# Altium schematic symbol library IC-Interface.SchLib: 6 symbols
Pins are listed as number, name and electrical type; pins without a type are passive.

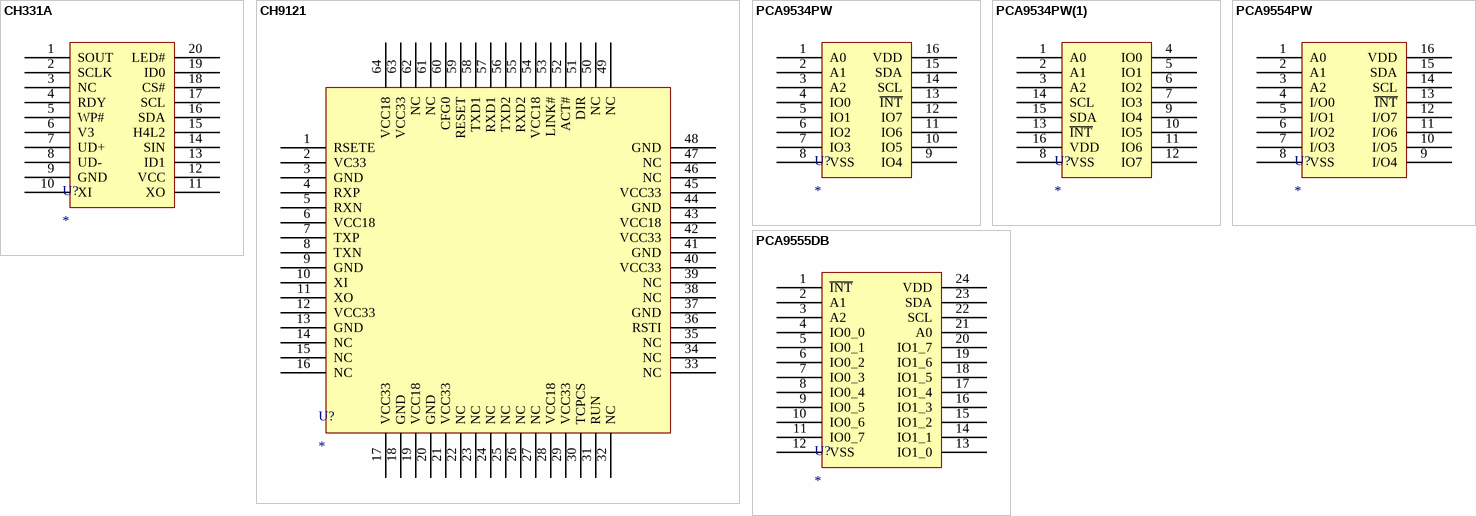
[diagram p0: symbols CH331A to PCA9555DB]

## CH331A
designator U?
footprint SSOP-20 (SSOP, Plastic; 20 Leads; Body Width 5.3 mm; Pitch 0.65 mm)
pins: 1 SOUT, 2 SCLK, 3 NC, 4 RDY, 5 WP#, 6 V3, 7 UD+, 8 UD-, 9 GND, 10 XI, 11 XO, 12 VCC, 13 ID1, 14 SIN, 15 H4L2, 16 SDA, 17 SCL, 18 CS#, 19 ID0, 20 LED#

## CH9121
designator U?
footprint LQFP-64 (Thin QFP, 64-Leads, Body 10x10mm, Pitch 0.5mm, IPC Medium Density)
pins: 1 RSETE, 2 VC33, 3 GND, 4 RXP, 5 RXN, 6 VCC18, 7 TXP, 8 TXN, 9 GND, 10 XI, 11 XO, 12 VCC33, 13 GND, 14 NC, 15 NC, 16 NC, 17 VCC33, 18 GND, 19 VCC18, 20 GND, 21 VCC33, 22 NC, 23 NC, 24 NC, 25 NC, 26 NC, 27 NC, 28 VCC18, 29 VCC33, 30 TCPCS, 31 RUN, 32 NC, 33 NC, 34 NC, 35 NC, 36 RSTI, 37 GND, 38 NC, 39 NC, 40 VCC33, 41 GND, 42 VCC33, 43 VCC18, 44 GND, 45 VCC33, 46 NC, 47 NC, 48 GND, 49 NC, 50 NC, 51 DIR, 52 ACT#, 53 LINK#, 54 VCC18, 55 RXD2, 56 TXD2, 57 RXD1, 58 TXD1, 59 RESET, 60 CFG0, 61 NC, 62 NC, 63 VCC33, 64 VCC18

## PCA9534PW
designator U?
footprint TSSOP-16
pins: 1 A0, 2 A1, 3 A2, 4 IO0, 5 IO1, 6 IO2, 7 IO3, 8 VSS, 9 IO4, 10 IO5, 11 IO6, 12 IO7, 13 ~{INT}, 14 SCL, 15 SDA, 16 VDD

## PCA9534PW(1)
designator U?
footprint TSSOP-16
pins: 1 A0, 2 A1, 3 A2, 4 IO0, 5 IO1, 6 IO2, 7 IO3, 8 VSS, 9 IO4, 10 IO5, 11 IO6, 12 IO7, 13 ~{INT}, 14 SCL, 15 SDA, 16 VDD

## PCA9554PW
designator U?
footprint TSSOP-16
pins: 1 A0, 2 A1, 3 A2, 4 I/O0, 5 I/O1, 6 I/O2, 7 I/O3, 8 VSS, 9 I/O4, 10 I/O5, 11 I/O6, 12 I/O7, 13 ~{INT}, 14 SCL, 15 SDA, 16 VDD

## PCA9555DB
designator U?
footprint SSOP-24 (SSOP, Plastic; 24 Leads; Body Width 5.3 mm; Pitch 0.65 mm)
pins: 1 ~{INT}, 2 A1, 3 A2, 4 IO0_0, 5 IO0_1, 6 IO0_2, 7 IO0_3, 8 IO0_4, 9 IO0_5, 10 IO0_6, 11 IO0_7, 12 VSS, 13 IO1_0, 14 IO1_1, 15 IO1_2, 16 IO1_3, 17 IO1_4, 18 IO1_5, 19 IO1_6, 20 IO1_7, 21 A0, 22 SCL, 23 SDA, 24 VDD